# EAGLE library part GBA-LCD-CONNECTOR-40PIN (library arcadetv)
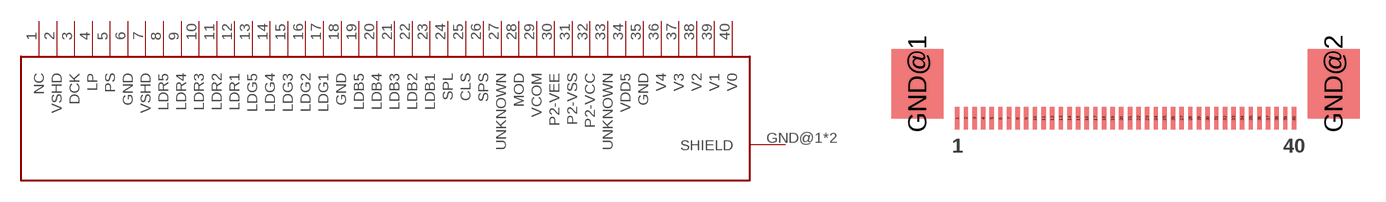
[diagram p16: symbol with the pads of GBA-LCD-CONNECTOR-40PIN; footprint GBA-LCD-CONNECTOR-40PIN]

Designator prefix -

## GBA-LCD-CONNECTOR-40PIN  [GBA-LCD-CONNECTOR-40PIN]
1  NC
2  VSHD
3  DCK
4  LP
5  PS
6  GND
7  VSHD
8  LDR5
9  LDR4
10  LDR3
11  LDR2
12  LDR1
13  LDG5
14  LDG4
15  LDG3
16  LDG2
17  LDG1
18  GND
19  LDB5
20  LDB4
21  LDB3
22  LDB2
23  LDB1
24  SPL
25  CLS
26  SPS
27  UNKNOWN
28  MOD
29  VCOM
30  P2-VEE
31  P2-VSS
32  P2-VCC
33  UNKNOWN
34  VDD5
35  GND
36  V4
37  V3
38  V2
39  V1
40  V0
GND@1  SHIELD
GND@2  SHIELD

## Footprint GBA-LCD-CONNECTOR-40PIN (pad centres in mm)
smd 0.254 x 1.3: 1 0,0; 2 0.5,0; 3 1,0; 4 1.5,0; 5 2,0; 6 2.5,0; 7 3,0; 8 3.5,0; 9 4,0; 10 4.5,0; 11 5,0; 12 5.5,0; 13 6,0; 14 6.5,0; 15 7,0; 16 7.5,0; 17 8,0; 18 8.5,0; 19 9,0; 20 9.5,0; 21 10,0; 22 10.5,0; 23 11,0; 24 11.5,0; 25 12,0; 26 12.5,0; 27 13,0; 28 13.5,0; 29 14,0; 30 14.5,0; 31 15,0; 32 15.5,0; 33 16,0; 34 16.5,0; 35 17,0; 36 17.5,0; 37 18,0; 38 18.5,0; 39 19,0; 40 19.5,0
smd 3 x 4: GND@1 -2.3,2; GND@2 21.8,2